# EAGLE library part 4051 (library butter)
74HC4051PW NXP 8:1 Analog Multiplexer digikey <http://www.digikey.com/product-detail/en/74HC4051PW,118/568-2259-1-ND/946721>
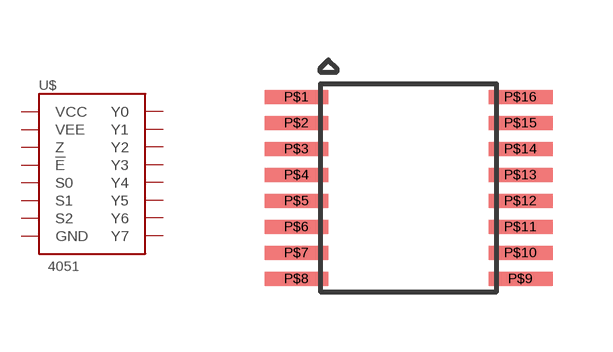
[diagram p1: symbol with the pads of TSSOP-16; footprint TSSOP-16]

Designator prefix U$

## 4051"  [TSSOP-16]
P$1  Y4
P$2  Y6
P$3  Z
P$4  Y7
P$5  Y5
P$6  !E
P$7  VEE
P$8  GND
P$9  S2
P$10  S1
P$11  S0
P$12  Y3
P$13  Y0
P$14  Y1
P$15  Y2
P$16  VCC

## Footprint TSSOP-16 (pad centres in mm)
smd 1.6 x 0.35: P$1 -2.8,2.275; P$2 -2.8,1.625; P$3 -2.8,0.975; P$4 -2.8,0.325; P$5 -2.8,-0.325; P$6 -2.8,-0.975; P$7 -2.8,-1.625; P$8 -2.8,-2.275; P$9 2.8,-2.275; P$10 2.8,-1.625; P$11 2.8,-0.975; P$12 2.8,-0.325; P$13 2.8,0.325; P$14 2.8,0.975; P$15 2.8,1.625; P$16 2.8,2.275